# Altium schematic symbol library Connectoren.SchLib: 18 symbols
Pins are listed as number, name and electrical type; pins without a type are passive.

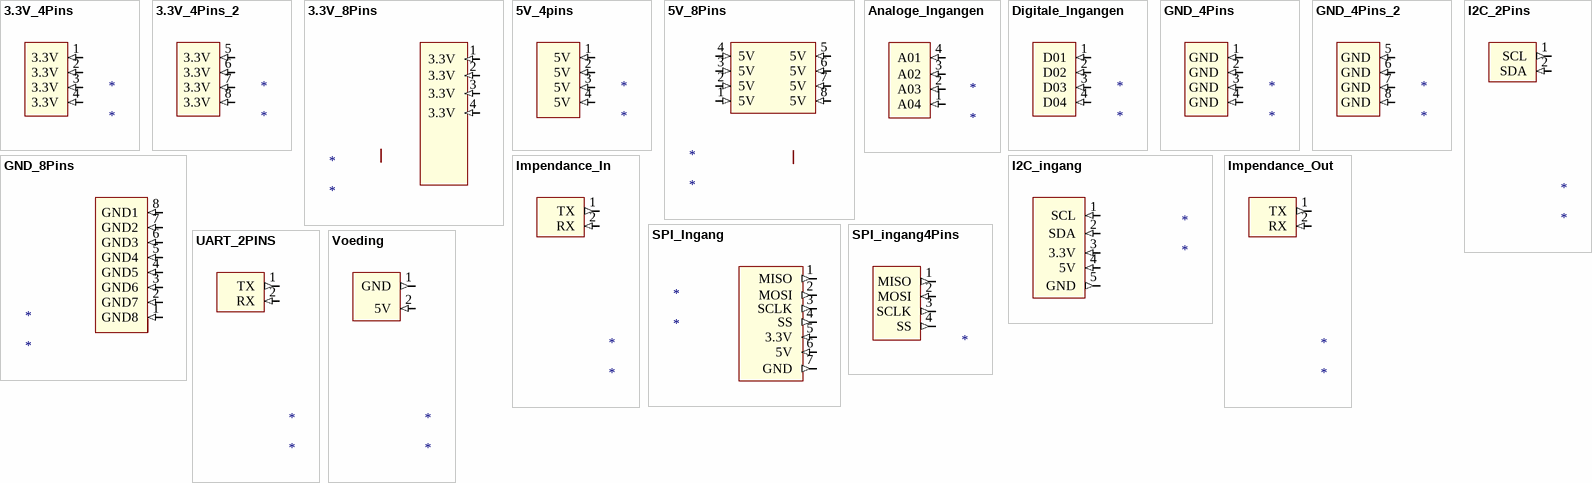
[diagram p0: symbols 3.3V_4Pins to Voeding]

## 3.3V_4Pins
designator *
footprint TBL007A-500-04GY
pins: 1 3.3V (in), 2 3.3V (in), 3 3.3V (in), 4 3.3V (in)

## 3.3V_4Pins_2
designator *
footprint TBL007A-500-04GY
pins: 5 3.3V (in), 6 3.3V (in), 7 3.3V (in), 8 3.3V (in)

## 3.3V_8Pins
designator *
footprint TBL007A-500-08GY
pins: 1 3.3V (in), 2 3.3V (in), 3 3.3V (in), 4 3.3V (in)

## 5V_4pins
designator *
footprint TBL007A-500-04GY
pins: 1 5V (in), 2 5V (in), 3 5V (in), 4 5V (in)

## 5V_8Pins
designator *
footprint TBL007A-500-08GY
pins: 1 5V (in), 2 5V (in), 3 5V (in), 4 5V (in), 5 5V (in), 6 5V (in), 7 5V (in), 8 5V (in)

## Analoge_Ingangen
designator *
footprint TBL007A-500-04GY
pins: 1 A04 (in), 2 A03 (in), 3 A02 (in), 4 A01 (in)

## Digitale_Ingangen
designator *
footprint TBL007A-500-04GY
pins: 1 D01 (in), 2 D02 (in), 3 D03 (in), 4 D04 (in)

## GND_4Pins
designator *
footprint TBL007A-500-04GY
pins: 1 GND (in), 2 GND (in), 3 GND (in), 4 GND (in)

## GND_4Pins_2
designator *
footprint TBL007A-500-04GY
pins: 5 GND (in), 6 GND (in), 7 GND (in), 8 GND (in)

## GND_8Pins
designator *
footprint TBL007A-500-08GY
pins: 1 GND8 (in), 2 GND7 (in), 3 GND6 (in), 4 GND5 (in), 5 GND4 (in), 6 GND3 (in), 7 GND2 (in), 8 GND1 (in)

## I2C_2Pins
designator *
footprint TBL007A-500-02GY
pins: 1 SCL (out), 2 SDA (in)

## I2C_ingang
designator *
footprint TBL007A-500-05GY
pins: 1 SCL (in), 2 SDA (in), 3 3.3V (in), 4 5V (in), 5 GND (out)

## Impendance_In
designator *
footprint TBL007A-500-02GY
pins: 1 TX (out), 2 RX (in)

## Impendance_Out
designator *
footprint TBL007A-500-02GY
pins: 1 TX (out), 2 RX (in)

## SPI_Ingang
designator *
footprint TBL007A-500-07GY
pins: 1 MISO (out), 2 MOSI (out), 3 SCLK (out), 4 SS (out), 5 3.3V (in), 6 5V (in), 7 GND (out)

## SPI_ingang4Pins
designator ?
footprint TBL007A-500-04GY
footprint Model Name (Footprint not found)
pins: 1 MISO (out), 2 MOSI (in), 3 SCLK (out), 4 SS (out)

## UART_2PINS
designator *
footprint TBL007A-500-02GY
pins: 1 TX (out), 2 RX (in)

## Voeding
designator *
footprint TBL007A-500-02GY
pins: 1 GND (out), 2 5V (in)